# EAGLE library part MICRO-USB-F-HIROSE (library PonLib)
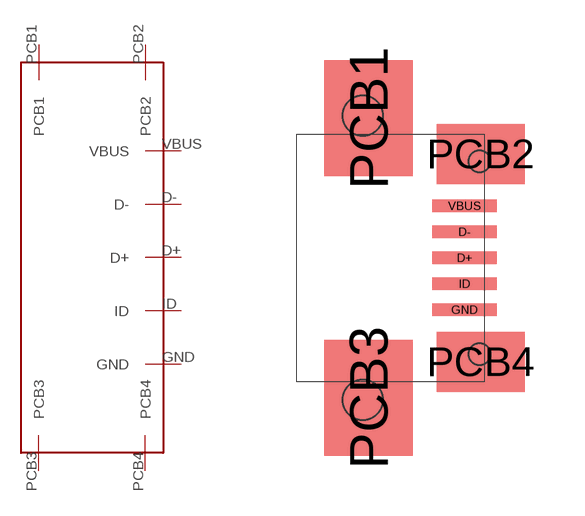
[diagram p12: symbol with the pads of MICRO-USB-F-HIROSE; footprint MICRO-USB-F-HIROSE]

Designator prefix -

## MICRO-USB-F-HIROSE  [MICRO-USB-F-HIROSE]
D+  D+
D-  D-
GND  GND
ID  ID
PCB1  PCB1
PCB2  PCB2
PCB3  PCB3
PCB4  PCB4
VBUS  VBUS

## Footprint MICRO-USB-F-HIROSE (pad centres in mm)
smd 1.6 x 0.305: D+ 2.8,0; D- 2.8,0.65; GND 2.8,-1.3; ID 2.8,-0.65; VBUS 2.8,1.3
smd 2.2 x 2.9: PCB1 0.4,3.5; PCB3 0.4,-3.5
smd 2.2 x 1.5: PCB2 3.2,2.6; PCB4 3.2,-2.6
hole 0.533 at 3.175,2.413
hole 0.533 at 3.175,-2.413
hole 1 at 0.254,-3.556
hole 1 at 0.254,3.556